# EAGLE library part TRINAMIC_TMC4671 (library motor_board_tmc)
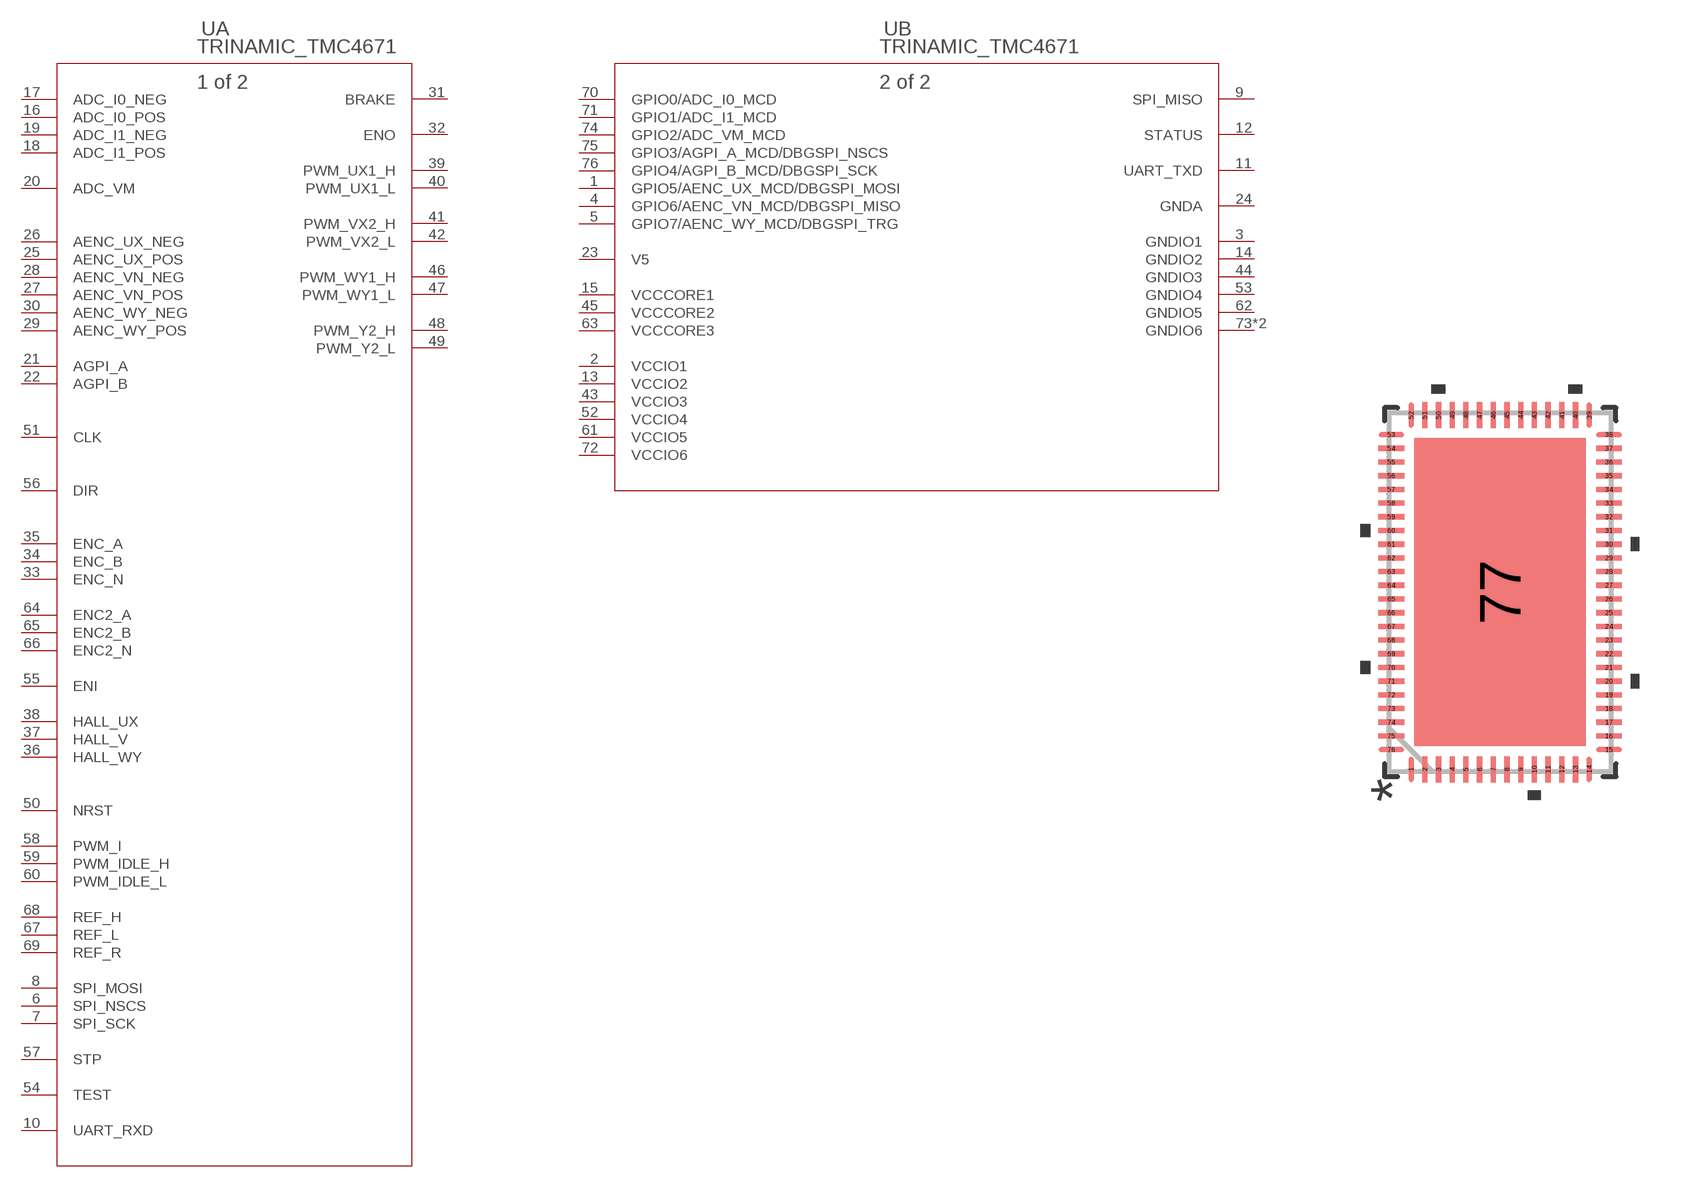
[diagram p6: symbol with the pads of TRINAMIC_QFN76_10P5X6P5; footprint TRINAMIC_QFN76_10P5X6P5]

Designator prefix U; gates A=TRINAMIC_TMC4671-ES B=TRINAMIC_TMC4671-ES_A

## TRINAMIC_TMC4671 (MANUFACTURER_PART_NUMBER: TMC4671ES; VENDOR: TRINAMIC)  [TRINAMIC_QFN76_10P5X6P5]
1  B:GPIO5/AENC_UX_MCD/DBGSPI_MOSI
2  B:VCCIO1  pwr
3  B:GNDIO1  pwr
4  B:GPIO6/AENC_VN_MCD/DBGSPI_MISO
5  B:GPIO7/AENC_WY_MCD/DBGSPI_TRG
6  A:SPI_NSCS  in
7  A:SPI_SCK  in
8  A:SPI_MOSI  in
9  B:SPI_MISO  out
10  A:UART_RXD  in
11  B:UART_TXD  out
12  B:STATUS  out
13  B:VCCIO2  pwr
14  B:GNDIO2  pwr
15  B:VCCCORE1  pwr
16  A:ADC_I0_POS  in
17  A:ADC_I0_NEG  in
18  A:ADC_I1_POS  in
19  A:ADC_I1_NEG  in
20  A:ADC_VM  in
21  A:AGPI_A  in
22  A:AGPI_B  in
23  B:V5  pwr
24  B:GNDA  pwr
25  A:AENC_UX_POS  in
26  A:AENC_UX_NEG  in
27  A:AENC_VN_POS  in
28  A:AENC_VN_NEG  in
29  A:AENC_WY_POS  in
30  A:AENC_WY_NEG  in
31  A:BRAKE  out
32  A:ENO  out
33  A:ENC_N  in
34  A:ENC_B  in
35  A:ENC_A  in
36  A:HALL_WY  in
37  A:HALL_V  in
38  A:HALL_UX  in
39  A:PWM_UX1_H  out
40  A:PWM_UX1_L  out
41  A:PWM_VX2_H  out
42  A:PWM_VX2_L  out
43  B:VCCIO3  pwr
44  B:GNDIO3  pwr
45  B:VCCCORE2  pwr
46  A:PWM_WY1_H  out
47  A:PWM_WY1_L  out
48  A:PWM_Y2_H  out
49  A:PWM_Y2_L  out
50  A:NRST  in
51  A:CLK  in
52  B:VCCIO4  pwr
53  B:GNDIO4  pwr
54  A:TEST  in
55  A:ENI  in
56  A:DIR  in
57  A:STP  in
58  A:PWM_I  in
59  A:PWM_IDLE_H  in
60  A:PWM_IDLE_L  in
61  B:VCCIO5  pwr
62  B:GNDIO5  pwr
63  B:VCCCORE3  pwr
64  A:ENC2_A  in
65  A:ENC2_B  in
66  A:ENC2_N  in
67  A:REF_L  in
68  A:REF_H  in
69  A:REF_R  in
70  B:GPIO0/ADC_I0_MCD
71  B:GPIO1/ADC_I1_MCD
72  B:VCCIO6  pwr
73  B:GNDIO6  pwr
74  B:GPIO2/ADC_VM_MCD
75  B:GPIO3/AGPI_A_MCD/DBGSPI_NSCS
76  B:GPIO4/AGPI_B_MCD/DBGSPI_SCK
77  B:GNDIO6  pwr

## Footprint TRINAMIC_QFN76_10P5X6P5 (pad centres in mm)
smd 0.152 x 0.755: 1 -2.6,-5.173; 2 -2.2,-5.173; 3 -1.8,-5.173; 4 -1.4,-5.173; 5 -1,-5.173; 6 -0.6,-5.173; 7 -0.2,-5.173; 8 0.2,-5.173; 9 0.6,-5.173; 10 1,-5.173; 11 1.4,-5.173; 12 1.8,-5.173; 13 2.2,-5.173; 14 2.6,-5.173; 39 2.6,5.173; 40 2.2,5.173; 41 1.8,5.173; 42 1.4,5.173; 43 1,5.173; 44 0.6,5.173; 45 0.2,5.173; 46 -0.2,5.173; 47 -0.6,5.173; 48 -1,5.173; 49 -1.4,5.173; 50 -1.8,5.173; 51 -2.2,5.173; 52 -2.6,5.173
smd 0.755 x 0.152: 15 3.179,-4.6; 16 3.179,-4.2; 17 3.179,-3.8; 18 3.179,-3.4; 19 3.179,-3; 20 3.179,-2.6; 21 3.179,-2.2; 22 3.179,-1.8; 23 3.179,-1.4; 24 3.179,-1; 25 3.179,-0.6; 26 3.179,-0.2; 27 3.179,0.2; 28 3.179,0.6; 29 3.179,1; 30 3.179,1.4; 31 3.179,1.8; 32 3.179,2.2; 33 3.179,2.6; 34 3.179,3; 35 3.179,3.4; 36 3.179,3.8; 37 3.179,4.2; 38 3.179,4.6; 53 -3.179,4.6; 54 -3.179,4.2; 55 -3.179,3.8; 56 -3.179,3.4; 57 -3.179,3; 58 -3.179,2.6; 59 -3.179,2.2; 60 -3.179,1.8; 61 -3.179,1.4; 62 -3.179,1; 63 -3.179,0.6; 64 -3.179,0.2; 65 -3.179,-0.2; 66 -3.179,-0.6; 67 -3.179,-1; 68 -3.179,-1.4; 69 -3.179,-1.8; 70 -3.179,-2.2; 71 -3.179,-2.6; 72 -3.179,-3; 73 -3.179,-3.4; 74 -3.179,-3.8; 75 -3.179,-4.2; 76 -3.179,-4.6
smd 5.004 x 8.992: 77 0,0